# Altium schematic symbol library 固定柱.SchLib: 1 symbol
Pins are listed as number, name and electrical type; pins without a type are passive.

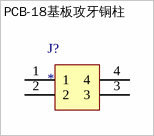
[diagram p0: symbol PCB-18基板攻牙铜柱]

## PCB-18基板攻牙铜柱
designator J?
footprint PCB-18基板攻牙铜柱
pins: 1, 2, 3, 4